# Altium schematic symbol library W25N01GVZEIG_TR.SchLib: 1 symbol
Pins are listed as number, name and electrical type; pins without a type are passive.

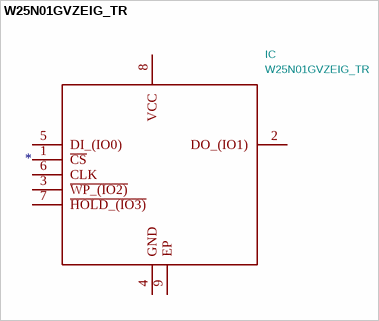
[diagram p0: symbol W25N01GVZEIG_TR]

## W25N01GVZEIG_TR
designator IC  value W25N01GVZEIG_TR
IC FLASH 1GBIT 104MHZ 8WSON; Manufacturer_Name: Winbond; Manufacturer_Part_Number: W25N01GVZEIG TR; Footprint: SON127P800X600X80-9N-D; Supplier: https://www.winbond.com/resource-files/w25n01gv revg 032116.pdf; Description_: IC FLASH 1GBIT 104MHZ 8WSON; Height: 0.8; Mouser Part Number: 454-W25N01GVZEIGTR; Mouser Price/Stock: https://www.mouser.com/Search/Refine.aspx?Keyword=454-W25N01GVZEIGTR
footprint SON127P800X600X80-9N-D
pins: 1 ~{CS}, 2 DO_(IO1), 3 ~{WP_(IO2)}, 4 GND, 5 DI_(IO0), 6 CLK, 7 ~{HOLD_(IO3)}, 8 VCC, 9 EP